# EAGLE library part LED_RGB (library display-r2)
6 terminal RGB LED
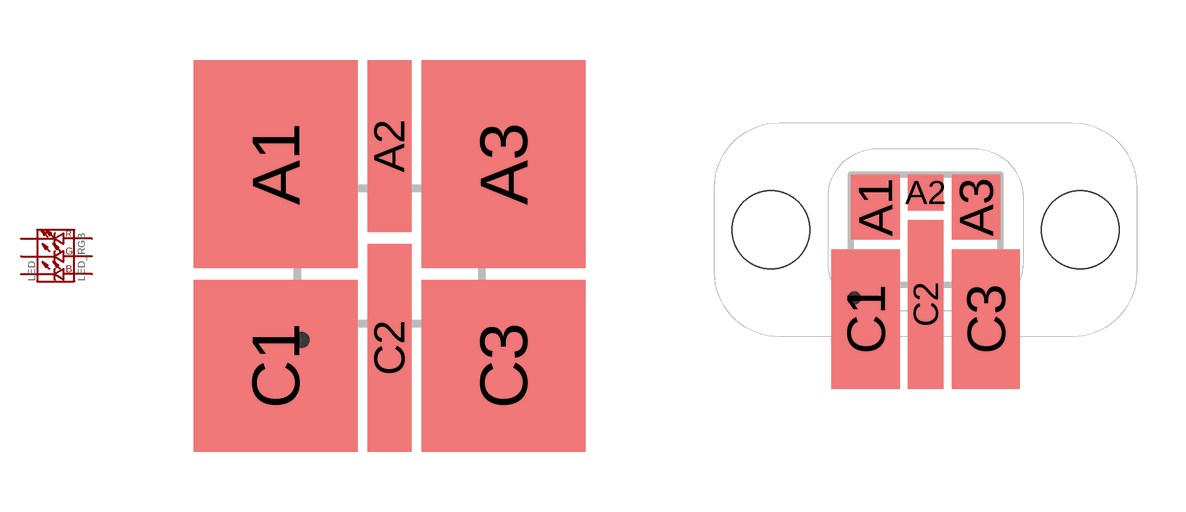
[diagram p1: symbol with the pads of LRTB_C9TP-B; footprints LRTB_C9TP-B, LRTB_C9TP-C]

Designator prefix LED

## LED_RGB-LRTB-B  [LRTB_C9TP-B]
A1  ANODE_R  pas
A2  ANODE_G  pas
A3  ANODE_B  pas
C1  CATHODE_R  pas
C2  CATHODE_G  pas
C3  CATHODE_B  pas

## LED_RGB-LRTB-C  [LRTB_C9TP-C]
Pads as for LRTB_C9TP-B

## LED_RGB-LRTB-D  [LRTB_C9TP-D]
Pads as for LRTB_C9TP-B

## Footprint LRTB_C9TP-B (pad centres in mm)
smd 4.1 x 5.2: A1 -2.85,2.3; A3 2.85,2.3
smd 1.1 x 4.3: A2 0,2.75
smd 4.1 x 4.3: C1 -2.85,-2.75; C3 2.85,-2.75
smd 1.1 x 5.2: C2 0,-2.3

## Footprint LRTB_C9TP-C (pad centres in mm)
LED including holes for light pipe mount http://www.mouser.com/ds/2/423/LPCM%20Datasheet-275279.pdf
smd 1.5 x 2: A1 -1.55,0.7; A3 1.55,0.7
smd 1.1 x 1.1: A2 0,1.15
smd 2.1 x 4.3: C1 -1.85,-2.75; C3 1.85,-2.75
smd 1.1 x 5.2: C2 0,-2.3
hole 2.388 at -4.763,0
hole 2.388 at 4.763,0

## Footprint LRTB_C9TP-D (pad centres in mm)
smd 1.5 x 2: A1 -1.55,0.7; A3 1.55,0.7
smd 1.1 x 1.1: A2 0,1.15
smd 2.1 x 1.1: C1 -1.85,-1.15; C3 1.85,-1.15
smd 1.1 x 2: C2 0,-0.7
hole 2.337 at -4.763,0
hole 2.337 at 4.763,0
hole 2.349 at 0,3.75
hole 2.349 at 0,-3.75